# Altium schematic symbol library L_smd.Schlib: 1 symbol
Pins are listed as number, name and electrical type; pins without a type are passive.

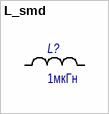
[diagram p0: symbol L_smd]

## L_smd
designator L?, comment 1мкГн
Индуктивность для поверхностнгого монтажа; Назначение: Чип-индуктивность; Потребление, Вт: 0,010; Value: 1мкГн; Наименование: Индуктивность
footprint CR-0402
footprint CR-0805
footprint CR-1206
footprint C_SMD_SIZE_B
footprint C_SMD_size_C
footprint CR-1206-0805
footprint XAL40xx (XAL40xx Series High Current Power Inductors)
pins: 1, 2